# EAGLE library part CP2102 (library bt_communication)
CP2102 USB to UART bridge A highly-integrated USB-to-UART Bridge Controller providing a simple solution for updating RS- 232 designs to USB using a minimum of components and PCB space. The CP2102/9 includes a USB 2.0 full- speed function controller, USB transceiver, oscillator, EEPROM or EPROM, and asynchronous serial data bus (UART) with full modem control signals in a compact 5 x 5 mm QFN-28 package. No other external USB components are required. datasheet.pdf <https://www.silabs.com/documents/public/data-sheets/CP2102-9.pdf>
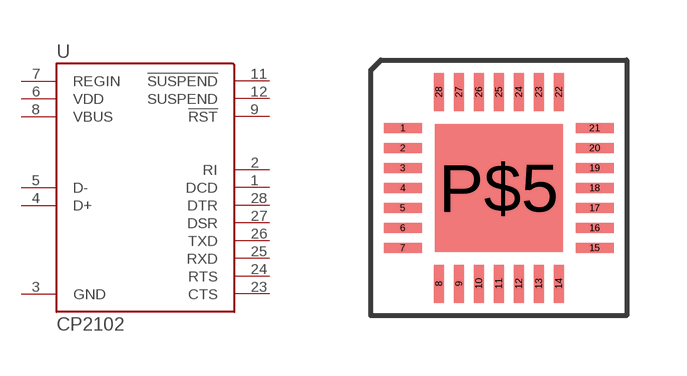
[diagram p5: symbol with the pads of QFN28; footprint QFN28]

Designator prefix -

## CP2102  [QFN28]
1  DCD
2  RI
3  GND
4  D+
5  D-
6  VDD
7  REGIN
8  VBUS
9  !RST
11  !SUSPEND
12  SUSPEND
23  CTS
24  RTS
25  RXD
26  TXD
27  DSR
28  DTR

## Footprint QFN28 (pad centres in mm)
smd 0.95 x 0.25: 1 -2.4,1.5; 2 -2.4,1; 3 -2.4,0.5; 4 -2.4,0; 5 -2.4,-0.5; 6 -2.4,-1; 7 -2.4,-1.5; 15 2.4,-1.5; 16 2.4,-1; 17 2.4,-0.5; 18 2.4,0; 19 2.4,0.5; 20 2.4,1; 21 2.4,1.5
smd 0.25 x 0.95: 8 -1.5,-2.4; 9 -1,-2.4; 10 -0.5,-2.4; 11 0,-2.4; 12 0.5,-2.4; 13 1,-2.4; 14 1.5,-2.4; 22 1.5,2.4; 23 1,2.4; 24 0.5,2.4; 25 0,2.4; 26 -0.5,2.4; 27 -1,2.4; 28 -1.5,2.4
smd 3.2 x 3.2: P$5 0,0